# Altium footprint library Passive,Diodes.PcbLib: 20 footprints (part 1 of 2)
Each footprint in its own frame and in the unit in brackets; x right, y up, seen from the top. Pads: shape width x height; smd on the part's side, far side on the other; paste and mask are expansions set on the pad; w line width, h text height; cw(c..) or ccw(c..) is an arc to the next point about the centre after c.
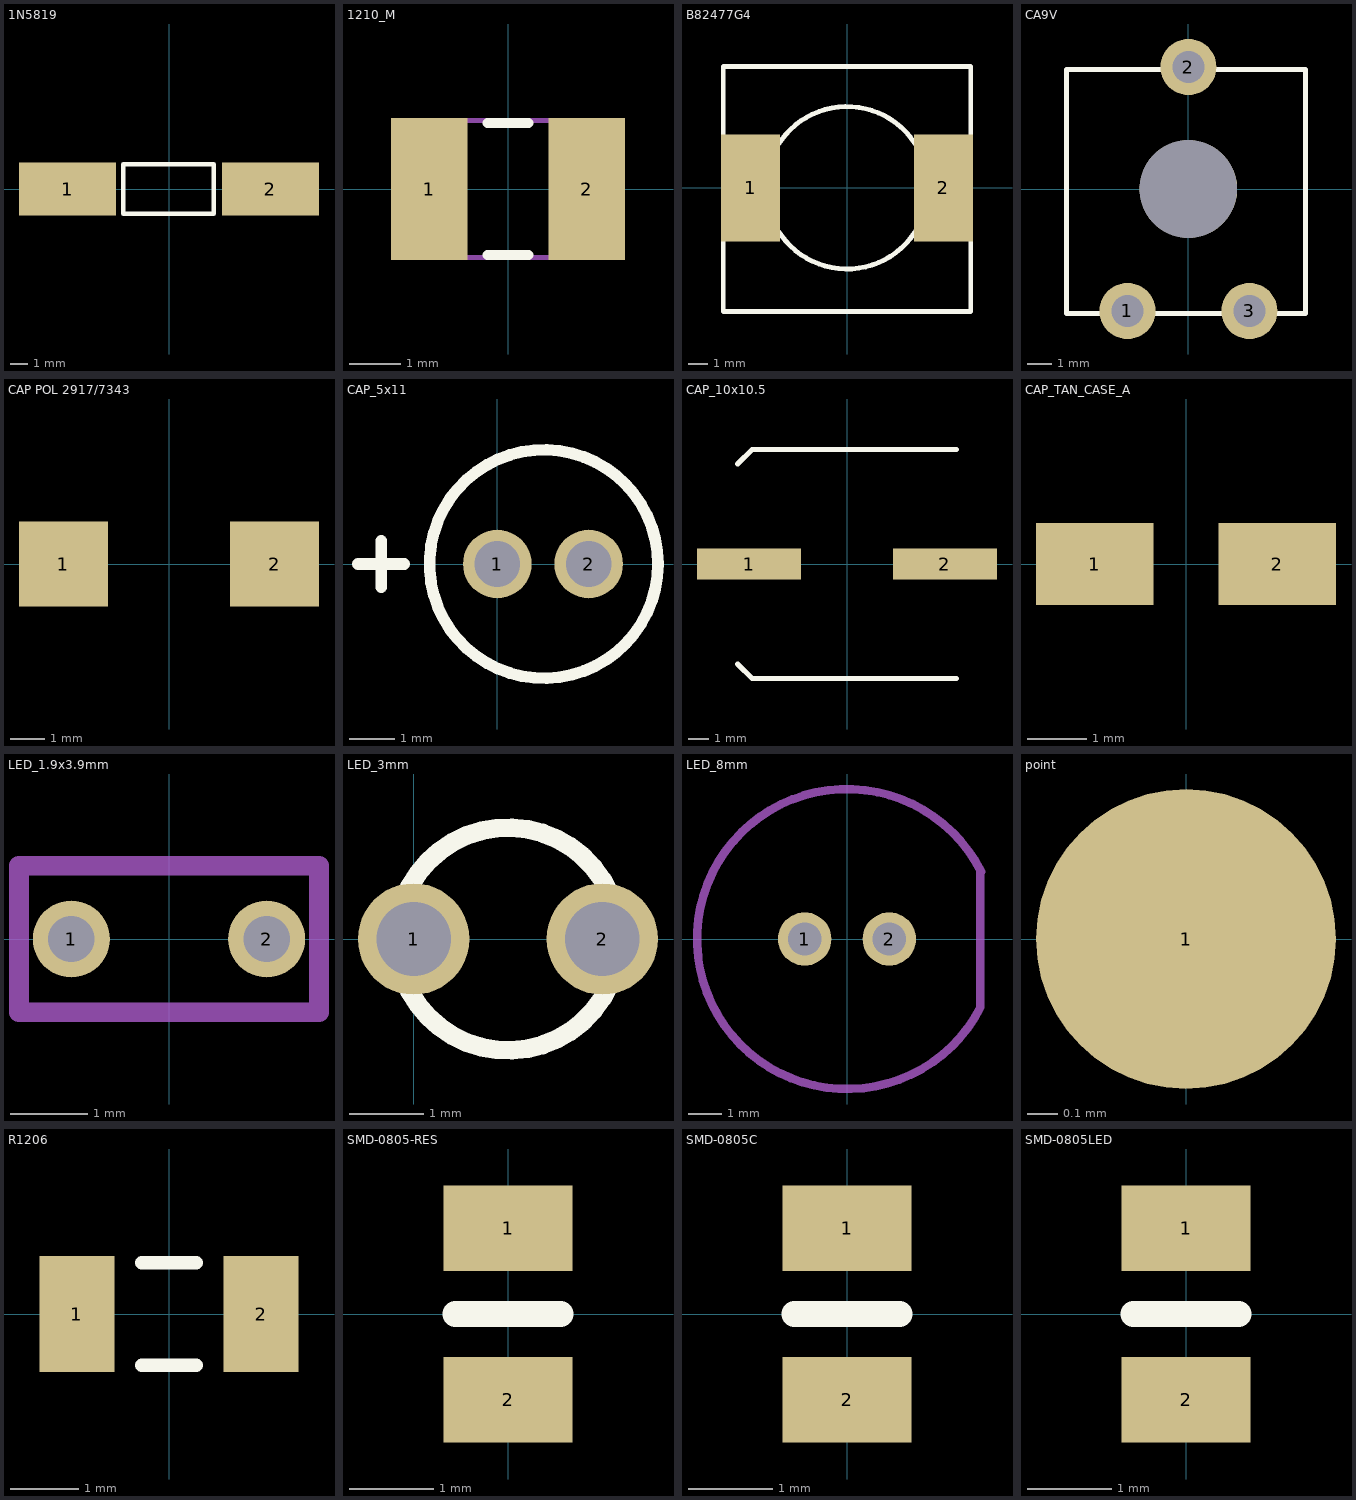
[diagram p0: the footprints below, top view; thin cyan lines are the x and y axes]

## 1N5819 [mm] "1N5819"
height 2.72
pads (2):
  rect 5.5x3 smd: 1(-5.75,0) 2(5.75,0)
Top Overlay:
  lines w0.254: -2.603,-1.397 2.54,-1.397 2.54,1.397 -2.603,1.397 -2.603,-1.397
3D body: height 0.86, standoff 0, extent 2.54,-0.429 7.54,0.429
3D body: height 0.86, standoff 0, extent -7.667,-0.429 -2.667,0.429
3D body: height 2.72, standoff 0, extent -2.603,-1.397 2.604,1.397

## 1210_M [mm] "Body 3.2x2.5mm, IPC Low Density"
height 1.5
pads (2):
  rect 1.5x2.8 smd: 1(-1.55,0) 2(1.55,0)
Top Overlay:
  lines w0.2: -0.4,-1.3 0.4,-1.3 ; -0.4,1.3 0.4,1.3
Mechanical 13:
  lines w0.1: -1.7,-1.35 -1.7,1.35 1.7,1.35 1.7,-1.35 -1.7,-1.35
3D body "1210.STEP": height 1.9, standoff 0, extent -1.6,-1.25 1.6,1.25

## B82477G4 [mm] "Size 12.8 x 12.8 x 8.0"
height 8
pads (2):
  rect 3.1x5.6 smd: 1(-5.05,0) 2(5.05,0)
Top Overlay:
  circle w0.254: c0,0 r4.25
  lines w0.254: -6.477,-6.477 -6.477,6.35 6.477,6.35 6.477,-6.477 -6.477,-6.477
3D body "Inductor b82477g4.step": height 8, standoff 0, extent -6.477,-6.477 6.323,6.323

## CA9V [mm] "Footprint CA9V"
pads (4):
  round 2.3 hole 1.3: 1(-2.5,-5) 2(0,5) 3(2.5,-5)
  round 4 hole 4: ""(0,0)
Top Overlay:
  lines w0.2: -5,-5.1 -5,4.9 4.8,4.9 4.8,-5.1 -5,-5.1
3D body "CA9V.step": height 6.15, standoff -4, extent -5.038,-5.225 4.962,4.975

## CAP POL 2917/7343 [mm] "Molded Capacitor, 2-Leads, Body 7.30x4.30mm, IPC Medium Density"
height 4.3
pads (2):
  rect 2.55x2.45 smd: 1(-3.025,0) 2(3.025,0)
3D body "Tantalum Capacitor case E.STEP": height 4.1, standoff 0, extent -3.65,-2.15 3.65,2.15

## CAP_5x11 [mm] "Electorlytic capacitor 5x11; 2 Leads"
height 11
pads (2):
  round 1.5 hole 1: 1(0,0) 2(2,0)
Top Overlay:
  circle w0.254: c1.016,0 r2.5
  lines w0.254: -3.048,0 -2.032,0 ; -2.54,-0.508 -2.54,0.508
3D body "5x11x2x0_5.STEP": height 11.11, standoff -20.11, extent -1.484,-2.5 3.506,2.5

## CAP_10x10.5 [mm] "Aluminum electrolytic capacitor with size 10x10.5 mm"
height 10.5
pads (2):
  rect 5x1.5 smd: 1(-4.7,0) 2(4.7,0)
Top Overlay:
  lines w0.254: -5.25,-4.8 -4.55,-5.5 5.25,-5.5 ; -5.25,4.8 -4.55,5.5 5.25,5.5
3D body "User Library-10x10_5.STEP": height 10.8, standoff 0, extent -5.65,-5.15 5.65,5.15

## CAP_TAN_CASE_A [mm] "Tantalum capacitor with case A"
height 1.6
pads (2):
  rect 2x1.4 smd: 1(-1.55,0) 2(1.55,0)
3D body "User Library-AVX_ACASE.step": height 1.71, standoff 0, extent -1.65,-0.84 1.75,0.84

## LED_1.9x3.9mm [mm] "Photosensitive Diode; 2 Leads"
pads (2):
  round 1 hole 0.6: 1(-1.27,0) 2(1.27,0)
Mechanical 13:
  lines w0.254: -1.95,-0.95 -1.95,0.95 1.95,0.95 1.95,-0.95 -1.95,-0.95
3D body: height 7, standoff 0, extent -1.95,-0.95 1.95,0.95
3D body: height 0, standoff -1, extent -1.518,-0.249 -1.02,0.25
3D body: height 0, standoff -1, extent 1.022,-0.249 1.52,0.25

## LED_3mm [mm] "Photosensitive Diode; 2 Leads"
pads (2):
  round 1.5 hole 1: 1(0,0) 2(2.54,0)
Top Overlay:
  circle w0.254: c1.27,0 r1.5
3D body "GREENLED.step": height 5.08, standoff -3.47, extent -0.762,-1.524 3.226,1.968

## LED_8mm [mm] "Photosensitive Diode; 2 Leads"
pads (2):
  round 1.6 hole 1: 1(-1.27,0) 2(1.27,0)
Mechanical 13:
  lines w0.254: 4,-2.05 4,0 4,2 ; 4.005,-2.052 cw(c0,0) 4.025,2.012
3D body "Led 8mm.step": height 11, standoff -31, extent -4.475,-4.525 4.055,4.475

## point [mm] "Point; 1 Position"
pads (1):
  round 1 smd: 1(0,0)

## R1206 [mm] "Chip resistor, Body 3.2x1.6mm, IPC High Density"
height 1.3
pads (2):
  rect 1.1x1.7 smd: 1(-1.35,0) 2(1.35,0)
Top Overlay:
  lines w0.2: -0.4,-0.75 0.4,-0.75 ; -0.4,0.75 0.4,0.75
3D body "1206 SMD Resistor.step": height 1, standoff 0, extent -1.6,-0.8 1.6,0.8

## SMD-0805-RES [mil]
pads (2):
  rect 60x40 smd: 1(0,40) 2(0,-40)
Top Overlay:
  lines w12: -24.6,0.01 24.6,0.01
3D body "SW3dPS-0805 SMD Resistor.STEP": height 30.79, standoff 0, extent -23.6,-39.36 25.6,39.38

## SMD-0805C [mil]
pads (2):
  rect 60x40 smd: 1(0,40) 2(0,-40)
Top Overlay:
  lines w12: -24.6,0.01 24.6,0.01
3D body "capacitor 0805.step": height 35.43, standoff 0, extent -24.6,-39.36 24.6,39.38

## SMD-0805LED [mil]
pads (2):
  rect 60x40 smd: 1(0,40) 2(0,-40)
Top Overlay:
  lines w12: -24.6,0.01 24.6,0.01
3D body "led_0805.step": height 43.31, standoff 0, extent -24.61,-39.76 24.6,39.77